# EAGLE library part HIP4080AIPZ (library Intersil_By_element14_Batch_1)
High Frequency Full Bridge FET Driver
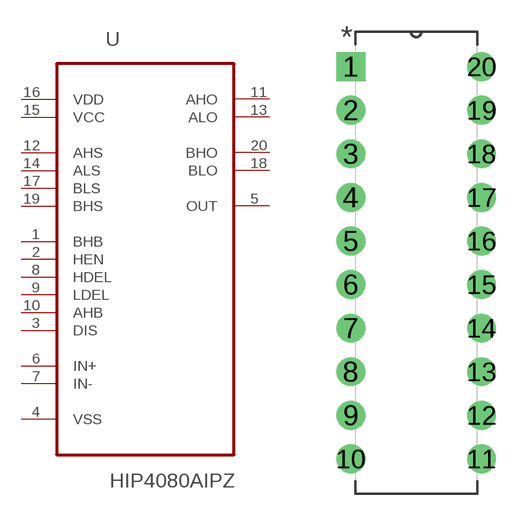
[diagram p152: symbol with the pads of DIP254P762X533-20; footprint DIP254P762X533-20]

Designator prefix U

## HIP4080AIPZ (MPN: HIP4080AIPZ; OC_FARNELL: 9664122; OC_NEWARK: 61J5959; PACKAGE: DIP-20; SUPPLIER: INTERSIL)  [DIP254P762X533-20]
1  BHB  in
2  HEN  in
3  DIS  in
4  VSS  pwr
5  OUT  out
6  IN+  in
7  IN-  in
8  HDEL  in
9  LDEL  in
10  AHB  in
11  AHO  out
12  AHS  pas
13  ALO  out
14  ALS  pas
15  VCC  pwr
16  VDD  pwr
17  BLS  pas
18  BLO  out
19  BHS  pas
20  BHO  out

## Footprint DIP254P762X533-20 (pad centres in mm)
drill 1.118 square: 1 -7.62,22.86
drill 1.118: 2 -7.62,20.32; 3 -7.62,17.78; 4 -7.62,15.24; 5 -7.62,12.7; 6 -7.62,10.16; 7 -7.62,7.62; 8 -7.62,5.08; 9 -7.62,2.54; 10 -7.62,0; 11 0,0; 12 0,2.54; 13 0,5.08; 14 0,7.62; 15 0,10.16; 16 0,12.7; 17 0,15.24; 18 0,17.78; 19 0,20.32; 20 0,22.86